# EAGLE library part MICRON-DRAM_DDR4-MT40A1G8WE-083E:B (library Module_ICs)
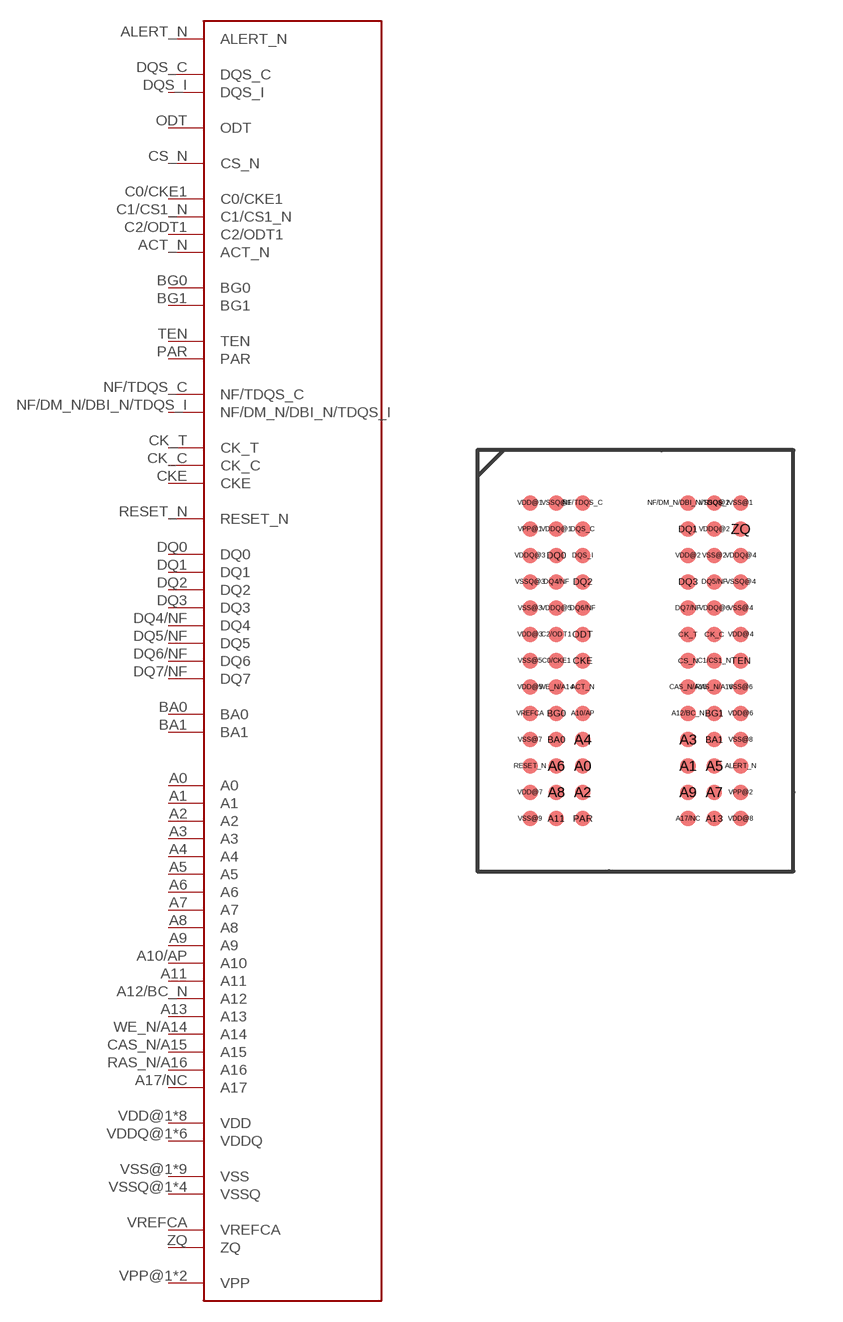
[diagram p6: symbol with the pads of MICRON-DRAM_DDR4-MT40A1G8WE-083E:B; footprint MICRON-DRAM_DDR4-MT40A1G8WE-083E:B]

Designator prefix -

## MICRON-DRAM_DDR4-MT40A1G8WE-083E:B  [MICRON-DRAM_DDR4-MT40A1G8WE-083E:B]
A0  A0
A1  A1
A2  A2
A3  A3
A4  A4
A5  A5
A6  A6
A7  A7
A8  A8
A9  A9
A10/AP  A10
A11  A11
A12/BC_N  A12
A13  A13
A17/NC  A17
ACT_N  ACT_N
ALERT_N  ALERT_N
BA0  BA0
BA1  BA1
BG0  BG0
BG1  BG1
C0/CKE1  C0/CKE1
C1/CS1_N  C1/CS1_N
C2/ODT1  C2/ODT1
CAS_N/A15  A15
CK_C  CK_C
CK_T  CK_T
CKE  CKE
CS_N  CS_N
DQ0  DQ0
DQ1  DQ1
DQ2  DQ2
DQ3  DQ3
DQ4/NF  DQ4
DQ5/NF  DQ5
DQ6/NF  DQ6
DQ7/NF  DQ7
DQS_C  DQS_C
DQS_I  DQS_I
NF/DM_N/DBI_N/TDQS_I  NF/DM_N/DBI_N/TDQS_I
NF/TDQS_C  NF/TDQS_C
ODT  ODT
PAR  PAR
RAS_N/A16  A16
RESET_N  RESET_N
TEN  TEN
VDD@1  VDD
VDD@2  VDD
VDD@3  VDD
VDD@4  VDD
VDD@5  VDD
VDD@6  VDD
VDD@7  VDD
VDD@8  VDD
VDDQ@1  VDDQ
VDDQ@2  VDDQ
VDDQ@3  VDDQ
VDDQ@4  VDDQ
VDDQ@5  VDDQ
VDDQ@6  VDDQ
VPP@1  VPP
VPP@2  VPP
VREFCA  VREFCA
VSS@1  VSS
VSS@2  VSS
VSS@3  VSS
VSS@4  VSS
VSS@5  VSS
VSS@6  VSS
VSS@7  VSS
VSS@8  VSS
VSS@9  VSS
VSSQ@1  VSSQ
VSSQ@2  VSSQ
VSSQ@3  VSSQ
VSSQ@4  VSSQ
WE_N/A14  A14
ZQ  ZQ

## Footprint MICRON-DRAM_DDR4-MT40A1G8WE-083E:B (pad centres in mm)
smd 0.47 x 0.47: A0 1.6,1.6; A1 4.8,1.6; A2 1.6,0.8; A3 4.8,2.4; A4 1.6,2.4; A5 5.6,1.6; A6 0.8,1.6; A7 5.6,0.8; A8 0.8,0.8; A9 4.8,0.8; A10/AP 1.6,3.2; A11 0.8,0; A12/BC_N 4.8,3.2; A13 5.6,0; A17/NC 4.8,0; ACT_N 1.6,4; ALERT_N 6.4,1.6; BA0 0.8,2.4; BA1 5.6,2.4; BG0 0.8,3.2; BG1 5.6,3.2; C0/CKE1 0.8,4.8; C1/CS1_N 5.6,4.8; C2/ODT1 0.8,5.6; CAS_N/A15 4.8,4; CK_C 5.6,5.6; CK_T 4.8,5.6; CKE 1.6,4.8; CS_N 4.8,4.8; DQ0 0.8,8; DQ1 4.8,8.8; DQ2 1.6,7.2; DQ3 4.8,7.2; DQ4/NF 0.8,7.2; DQ5/NF 5.6,7.2; DQ6/NF 1.6,6.4; DQ7/NF 4.8,6.4; DQS_C 1.6,8.8; DQS_I 1.6,8; NF/DM_N/DBI_N/TDQS_I 4.8,9.6; NF/TDQS_C 1.6,9.6; ODT 1.6,5.6; PAR 1.6,0; RAS_N/A16 5.6,4; RESET_N 0,1.6; TEN 6.4,4.8; VDD@1 0,9.6; VDD@2 4.8,8; VDD@3 0,5.6; VDD@4 6.4,5.6; VDD@5 0,4; VDD@6 6.4,3.2; VDD@7 0,0.8; VDD@8 6.4,0; VDDQ@1 0.8,8.8; VDDQ@2 5.6,8.8; VDDQ@3 0,8; VDDQ@4 6.4,8; VDDQ@5 0.8,6.4; VDDQ@6 5.6,6.4; VPP@1 0,8.8; VPP@2 6.4,0.8; VREFCA 0,3.2; VSS@1 6.4,9.6; VSS@2 5.6,8; VSS@3 0,6.4; VSS@4 6.4,6.4; VSS@5 0,4.8; VSS@6 6.4,4; VSS@7 0,2.4; VSS@8 6.4,2.4; VSS@9 0,0; VSSQ@1 0.8,9.6; VSSQ@2 5.6,9.6; VSSQ@3 0,7.2; VSSQ@4 6.4,7.2; WE_N/A14 0.8,4; ZQ 6.4,8.8